# Altium schematic symbol library MCU_Microchip_PIC12.SchLib: 114 symbols
Pins are listed as number, name and electrical type; pins without a type are passive.

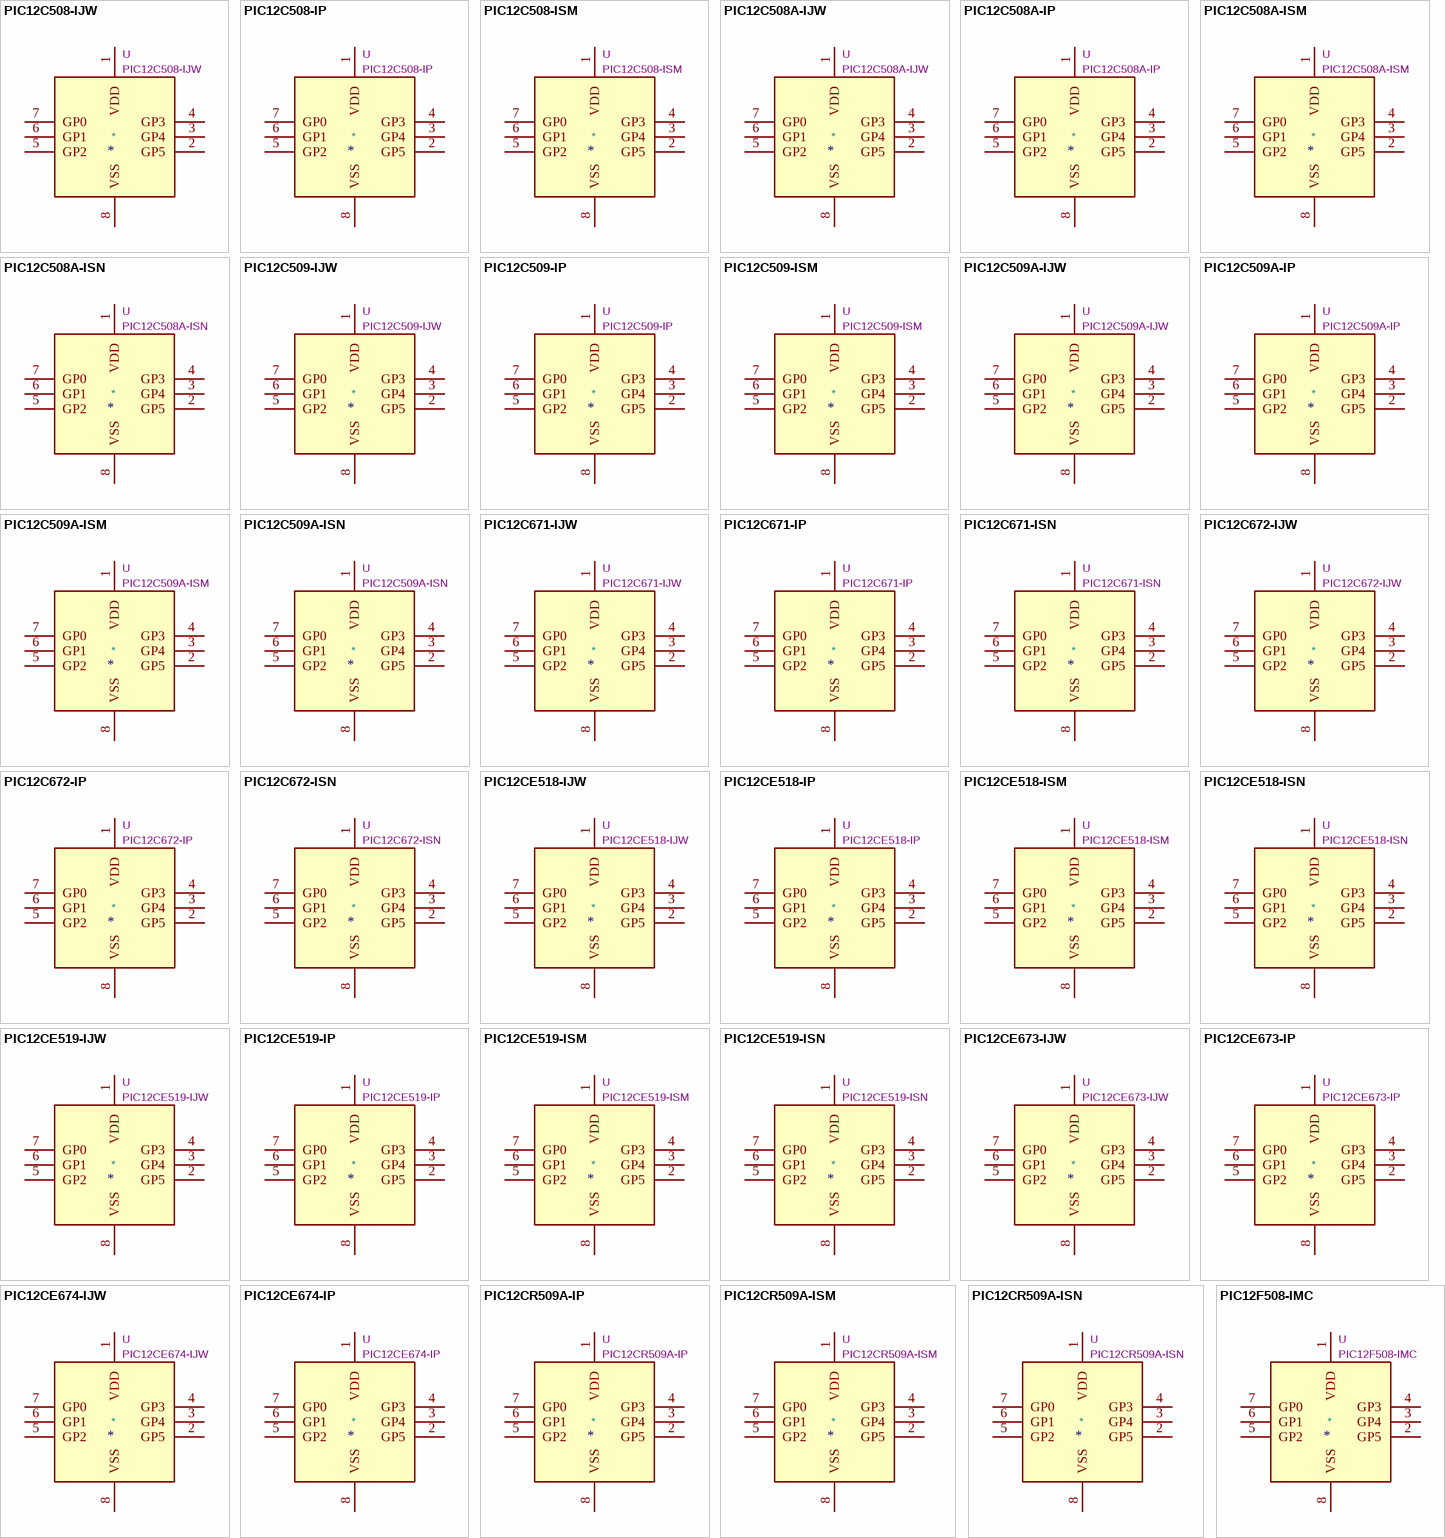
[diagram p0: symbols PIC12C508-IJW to PIC12F508-IMC]

## PIC12C508-IJW
designator *  value PIC12C508-IJW  Reference: U
ki_keywords: 8-Bit CMOS Microcontroller; ki_description: PIC12C508, 512W EPROM, 25B SRAM, CERDIP8 Windowed; ki_fp_filters: DIP*W7.62mm*; Footprint: Package_DIP:DIP-8_W7.62mm; Datasheet: http://ww1.microchip.com/downloads/en/devicedoc/40139e.pdf
pins: 1 VDD, 2 GP5, 3 GP4, 4 GP3, 5 GP2, 6 GP1, 7 GP0, 8 VSS

## PIC12C508-IP
designator *  value PIC12C508-IP  Reference: U
ki_keywords: 8-Bit CMOS Microcontroller; ki_description: 512W EPROM, 25B SRAM, PDIP8; ki_fp_filters: DIP*W7.62mm*; Footprint: Package_DIP:DIP-8_W7.62mm; Datasheet: http://ww1.microchip.com/downloads/en/devicedoc/40139e.pdf
pins: 1 VDD, 2 GP5, 3 GP4, 4 GP3, 5 GP2, 6 GP1, 7 GP0, 8 VSS

## PIC12C508-ISM
designator *  value PIC12C508-ISM  Reference: U
ki_keywords: 8-Bit CMOS Microcontroller; ki_description: PIC12C508, 512W EPROM, 25B SRAM, SO8 Wide; ki_fp_filters: DIP*W7.62mm*; Footprint: Package_DIP:DIP-8_W7.62mm; Datasheet: http://ww1.microchip.com/downloads/en/devicedoc/40139e.pdf
pins: 1 VDD, 2 GP5, 3 GP4, 4 GP3, 5 GP2, 6 GP1, 7 GP0, 8 VSS

## PIC12C508A-IJW
designator *  value PIC12C508A-IJW  Reference: U
ki_keywords: 8-Bit CMOS Microcontroller; ki_description: PIC12C508A, 512W EPROM, 25B SRAM, CERDIP8 Windowed; ki_fp_filters: DIP*W7.62mm*; Footprint: Package_DIP:DIP-8_W7.62mm; Datasheet: http://ww1.microchip.com/downloads/en/devicedoc/40139e.pdf
pins: 1 VDD, 2 GP5, 3 GP4, 4 GP3, 5 GP2, 6 GP1, 7 GP0, 8 VSS

## PIC12C508A-IP
designator *  value PIC12C508A-IP  Reference: U
ki_keywords: 8-Bit CMOS Microcontroller; ki_description: 512W EPROM, 25B SRAM, PDIP8; ki_fp_filters: DIP*W7.62mm*; Footprint: Package_DIP:DIP-8_W7.62mm; Datasheet: http://ww1.microchip.com/downloads/en/devicedoc/40139e.pdf
pins: 1 VDD, 2 GP5, 3 GP4, 4 GP3, 5 GP2, 6 GP1, 7 GP0, 8 VSS

## PIC12C508A-ISM
designator *  value PIC12C508A-ISM  Reference: U
ki_keywords: 8-Bit CMOS Microcontroller; ki_description: PIC12C508A, 512W EPROM, 25B SRAM, SO8 Wide; ki_fp_filters: DIP*W7.62mm*; Footprint: Package_DIP:DIP-8_W7.62mm; Datasheet: http://ww1.microchip.com/downloads/en/devicedoc/40139e.pdf
pins: 1 VDD, 2 GP5, 3 GP4, 4 GP3, 5 GP2, 6 GP1, 7 GP0, 8 VSS

## PIC12C508A-ISN
designator *  value PIC12C508A-ISN  Reference: U
ki_keywords: 8-Bit CMOS Microcontroller; ki_description: PIC12C508A, 512W EPROM, 25B SRAM, SO8; ki_fp_filters: DIP*W7.62mm*; Footprint: Package_DIP:DIP-8_W7.62mm; Datasheet: http://ww1.microchip.com/downloads/en/devicedoc/40139e.pdf
pins: 1 VDD, 2 GP5, 3 GP4, 4 GP3, 5 GP2, 6 GP1, 7 GP0, 8 VSS

## PIC12C509-IJW
designator *  value PIC12C509-IJW  Reference: U
ki_keywords: 8-Bit CMOS Microcontroller; ki_description: PIC12C509, 1024W EPROM, 41B SRAM, CERDIP8 Windowed; ki_fp_filters: DIP*W7.62mm*; Footprint: Package_DIP:DIP-8_W7.62mm; Datasheet: http://ww1.microchip.com/downloads/en/devicedoc/40139e.pdf
pins: 1 VDD, 2 GP5, 3 GP4, 4 GP3, 5 GP2, 6 GP1, 7 GP0, 8 VSS

## PIC12C509-IP
designator *  value PIC12C509-IP  Reference: U
ki_keywords: 8-Bit CMOS Microcontroller; ki_description: 1024W EPROM, 41B SRAM, PDIP8; ki_fp_filters: DIP*W7.62mm*; Footprint: Package_DIP:DIP-8_W7.62mm; Datasheet: http://ww1.microchip.com/downloads/en/devicedoc/40139e.pdf
pins: 1 VDD, 2 GP5, 3 GP4, 4 GP3, 5 GP2, 6 GP1, 7 GP0, 8 VSS

## PIC12C509-ISM
designator *  value PIC12C509-ISM  Reference: U
ki_keywords: 8-Bit CMOS Microcontroller; ki_description: PIC12C509, 1024W EPROM, 41B SRAM, SO8 Wide; ki_fp_filters: DIP*W7.62mm*; Footprint: Package_DIP:DIP-8_W7.62mm; Datasheet: http://ww1.microchip.com/downloads/en/devicedoc/40139e.pdf
pins: 1 VDD, 2 GP5, 3 GP4, 4 GP3, 5 GP2, 6 GP1, 7 GP0, 8 VSS

## PIC12C509A-IJW
designator *  value PIC12C509A-IJW  Reference: U
ki_keywords: 8-Bit CMOS Microcontroller; ki_description: PIC12C509A, 1024W EPROM, 41B SRAM, CERDIP8 Windowed; ki_fp_filters: DIP*W7.62mm*; Footprint: Package_DIP:DIP-8_W7.62mm; Datasheet: http://ww1.microchip.com/downloads/en/devicedoc/40139e.pdf
pins: 1 VDD, 2 GP5, 3 GP4, 4 GP3, 5 GP2, 6 GP1, 7 GP0, 8 VSS

## PIC12C509A-IP
designator *  value PIC12C509A-IP  Reference: U
ki_keywords: 8-Bit CMOS Microcontroller; ki_description: PIC12C509, 1024W EPROM, 41B SRAM, PDIP8; ki_fp_filters: DIP*W7.62mm*; Footprint: Package_DIP:DIP-8_W7.62mm; Datasheet: http://ww1.microchip.com/downloads/en/devicedoc/40139e.pdf
pins: 1 VDD, 2 GP5, 3 GP4, 4 GP3, 5 GP2, 6 GP1, 7 GP0, 8 VSS

## PIC12C509A-ISM
designator *  value PIC12C509A-ISM  Reference: U
ki_keywords: 8-Bit CMOS Microcontroller; ki_description: PIC12C509A, 1024W EPROM, 41B SRAM, SO8 Wide; ki_fp_filters: DIP*W7.62mm*; Footprint: Package_DIP:DIP-8_W7.62mm; Datasheet: http://ww1.microchip.com/downloads/en/devicedoc/40139e.pdf
pins: 1 VDD, 2 GP5, 3 GP4, 4 GP3, 5 GP2, 6 GP1, 7 GP0, 8 VSS

## PIC12C509A-ISN
designator *  value PIC12C509A-ISN  Reference: U
ki_keywords: 8-Bit CMOS Microcontroller; ki_description: PIC12C509A, 1024W EPROM, 41B SRAM, SO8; ki_fp_filters: DIP*W7.62mm*; Footprint: Package_DIP:DIP-8_W7.62mm; Datasheet: http://ww1.microchip.com/downloads/en/devicedoc/40139e.pdf
pins: 1 VDD, 2 GP5, 3 GP4, 4 GP3, 5 GP2, 6 GP1, 7 GP0, 8 VSS

## PIC12C671-IJW
designator *  value PIC12C671-IJW  Reference: U
ki_keywords: 8-Bit CMOS Microcontroller; ki_description: PIC12C671, 1024W EPROM, 128B SRAM, CERDIP8 Windowed; ki_fp_filters: DIP*W7.62mm*; Footprint: Package_DIP:DIP-8_W7.62mm; Datasheet: http://ww1.microchip.com/downloads/en/DeviceDoc/30561b.pdf
pins: 1 VDD, 2 GP5, 3 GP4, 4 GP3, 5 GP2, 6 GP1, 7 GP0, 8 VSS

## PIC12C671-IP
designator *  value PIC12C671-IP  Reference: U
ki_keywords: 8-Bit CMOS Microcontroller; ki_description: 1024W EPROM, 128B SRAM, PDIP8; ki_fp_filters: DIP*W7.62mm*; Footprint: Package_DIP:DIP-8_W7.62mm; Datasheet: http://ww1.microchip.com/downloads/en/DeviceDoc/30561b.pdf
pins: 1 VDD, 2 GP5, 3 GP4, 4 GP3, 5 GP2, 6 GP1, 7 GP0, 8 VSS

## PIC12C671-ISN
designator *  value PIC12C671-ISN  Reference: U
ki_keywords: 8-Bit CMOS Microcontroller; ki_description: PIC12C671, 1024W EPROM, 128B SRAM, SO8; ki_fp_filters: DIP*W7.62mm*; Footprint: Package_DIP:DIP-8_W7.62mm; Datasheet: http://ww1.microchip.com/downloads/en/DeviceDoc/30561b.pdf
pins: 1 VDD, 2 GP5, 3 GP4, 4 GP3, 5 GP2, 6 GP1, 7 GP0, 8 VSS

## PIC12C672-IJW
designator *  value PIC12C672-IJW  Reference: U
ki_keywords: 8-Bit CMOS Microcontroller; ki_description: PIC12C672, 2048W EPROM, 128B SRAM, CERDIP8 Windowed; ki_fp_filters: DIP*W7.62mm*; Footprint: Package_DIP:DIP-8_W7.62mm; Datasheet: http://ww1.microchip.com/downloads/en/DeviceDoc/30561b.pdf
pins: 1 VDD, 2 GP5, 3 GP4, 4 GP3, 5 GP2, 6 GP1, 7 GP0, 8 VSS

## PIC12C672-IP
designator *  value PIC12C672-IP  Reference: U
ki_keywords: 8-Bit CMOS Microcontroller; ki_description: 2048W EPROM, 128B SRAM, PDIP8; ki_fp_filters: DIP*W7.62mm*; Footprint: Package_DIP:DIP-8_W7.62mm; Datasheet: http://ww1.microchip.com/downloads/en/DeviceDoc/30561b.pdf
pins: 1 VDD, 2 GP5, 3 GP4, 4 GP3, 5 GP2, 6 GP1, 7 GP0, 8 VSS

## PIC12C672-ISN
designator *  value PIC12C672-ISN  Reference: U
ki_keywords: 8-Bit CMOS Microcontroller; ki_description: PIC12C672, 2048W EPROM, 128B SRAM, SO8; ki_fp_filters: DIP*W7.62mm*; Footprint: Package_DIP:DIP-8_W7.62mm; Datasheet: http://ww1.microchip.com/downloads/en/DeviceDoc/30561b.pdf
pins: 1 VDD, 2 GP5, 3 GP4, 4 GP3, 5 GP2, 6 GP1, 7 GP0, 8 VSS

## PIC12CE518-IJW
designator *  value PIC12CE518-IJW  Reference: U
ki_keywords: 8-Bit CMOS Microcontroller; ki_description: PIC12CE518, 512W EPROM, 25B SRAM, CERDIP8 Windowed; ki_fp_filters: DIP*W7.62mm*; Footprint: Package_DIP:DIP-8_W7.62mm; Datasheet: http://ww1.microchip.com/downloads/en/devicedoc/40139e.pdf
pins: 1 VDD, 2 GP5, 3 GP4, 4 GP3, 5 GP2, 6 GP1, 7 GP0, 8 VSS

## PIC12CE518-IP
designator *  value PIC12CE518-IP  Reference: U
ki_keywords: 8-Bit CMOS Microcontroller; ki_description: 512W EPROM, 25B SRAM, PDIP8; ki_fp_filters: DIP*W7.62mm*; Footprint: Package_DIP:DIP-8_W7.62mm; Datasheet: http://ww1.microchip.com/downloads/en/devicedoc/40139e.pdf
pins: 1 VDD, 2 GP5, 3 GP4, 4 GP3, 5 GP2, 6 GP1, 7 GP0, 8 VSS

## PIC12CE518-ISM
designator *  value PIC12CE518-ISM  Reference: U
ki_keywords: 8-Bit CMOS Microcontroller; ki_description: PIC12CE518, 512W EPROM, 25B SRAM, SO8 Wide; ki_fp_filters: DIP*W7.62mm*; Footprint: Package_DIP:DIP-8_W7.62mm; Datasheet: http://ww1.microchip.com/downloads/en/devicedoc/40139e.pdf
pins: 1 VDD, 2 GP5, 3 GP4, 4 GP3, 5 GP2, 6 GP1, 7 GP0, 8 VSS

## PIC12CE518-ISN
designator *  value PIC12CE518-ISN  Reference: U
ki_keywords: 8-Bit CMOS Microcontroller; ki_description: PIC12CE518, 512W EPROM, 25B SRAM, SO8; ki_fp_filters: DIP*W7.62mm*; Footprint: Package_DIP:DIP-8_W7.62mm; Datasheet: http://ww1.microchip.com/downloads/en/devicedoc/40139e.pdf
pins: 1 VDD, 2 GP5, 3 GP4, 4 GP3, 5 GP2, 6 GP1, 7 GP0, 8 VSS

## PIC12CE519-IJW
designator *  value PIC12CE519-IJW  Reference: U
ki_keywords: 8-Bit CMOS Microcontroller; ki_description: PIC12CE519, 1024W EPROM, 41B SRAM, CERDIP8 Windowed; ki_fp_filters: DIP*W7.62mm*; Footprint: Package_DIP:DIP-8_W7.62mm; Datasheet: http://ww1.microchip.com/downloads/en/devicedoc/40139e.pdf
pins: 1 VDD, 2 GP5, 3 GP4, 4 GP3, 5 GP2, 6 GP1, 7 GP0, 8 VSS

## PIC12CE519-IP
designator *  value PIC12CE519-IP  Reference: U
ki_keywords: 8-Bit CMOS Microcontroller; ki_description: 1024W EPROM, 41B SRAM, PDIP8; ki_fp_filters: DIP*W7.62mm*; Footprint: Package_DIP:DIP-8_W7.62mm; Datasheet: http://ww1.microchip.com/downloads/en/devicedoc/40139e.pdf
pins: 1 VDD, 2 GP5, 3 GP4, 4 GP3, 5 GP2, 6 GP1, 7 GP0, 8 VSS

## PIC12CE519-ISM
designator *  value PIC12CE519-ISM  Reference: U
ki_keywords: 8-Bit CMOS Microcontroller; ki_description: 1024W EPROM, 41B SRAM, SO8 Wide; ki_fp_filters: DIP*W7.62mm*; Footprint: Package_DIP:DIP-8_W7.62mm; Datasheet: http://ww1.microchip.com/downloads/en/devicedoc/40139e.pdf
pins: 1 VDD, 2 GP5, 3 GP4, 4 GP3, 5 GP2, 6 GP1, 7 GP0, 8 VSS

## PIC12CE519-ISN
designator *  value PIC12CE519-ISN  Reference: U
ki_keywords: 8-Bit CMOS Microcontroller; ki_description: PIC12CE519, 1024W EPROM, 41B SRAM, SO8; ki_fp_filters: DIP*W7.62mm*; Footprint: Package_DIP:DIP-8_W7.62mm; Datasheet: http://ww1.microchip.com/downloads/en/devicedoc/40139e.pdf
pins: 1 VDD, 2 GP5, 3 GP4, 4 GP3, 5 GP2, 6 GP1, 7 GP0, 8 VSS

## PIC12CE673-IJW
designator *  value PIC12CE673-IJW  Reference: U
ki_keywords: 8-Bit CMOS Microcontroller; ki_description: PIC12CE673, 1024W EPROM, 128B SRAM, 128B EEPROM, CERDIP8 Windowed; ki_fp_filters: DIP*W7.62mm*; Footprint: Package_DIP:DIP-8_W7.62mm; Datasheet: http://ww1.microchip.com/downloads/en/DeviceDoc/30561b.pdf
pins: 1 VDD, 2 GP5, 3 GP4, 4 GP3, 5 GP2, 6 GP1, 7 GP0, 8 VSS

## PIC12CE673-IP
designator *  value PIC12CE673-IP  Reference: U
ki_keywords: 8-Bit CMOS Microcontroller; ki_description: 1024W EPROM, 128B SRAM, 128B EPROM, PDIP8; ki_fp_filters: DIP*W7.62mm*; Footprint: Package_DIP:DIP-8_W7.62mm; Datasheet: http://ww1.microchip.com/downloads/en/DeviceDoc/30561b.pdf
pins: 1 VDD, 2 GP5, 3 GP4, 4 GP3, 5 GP2, 6 GP1, 7 GP0, 8 VSS

## PIC12CE674-IJW
designator *  value PIC12CE674-IJW  Reference: U
ki_keywords: 8-Bit CMOS Microcontroller; ki_description: PIC12CE674, 2048W EPROM, 128B SRAM, 128B EEPROM, CERDIP8 Windowed; ki_fp_filters: DIP*W7.62mm*; Footprint: Package_DIP:DIP-8_W7.62mm; Datasheet: http://ww1.microchip.com/downloads/en/DeviceDoc/30561b.pdf
pins: 1 VDD, 2 GP5, 3 GP4, 4 GP3, 5 GP2, 6 GP1, 7 GP0, 8 VSS

## PIC12CE674-IP
designator *  value PIC12CE674-IP  Reference: U
ki_keywords: 8-Bit CMOS Microcontroller; ki_description: 2048W EPROM, 128B SRAM, 128B EPROM, PDIP8; ki_fp_filters: DIP*W7.62mm*; Footprint: Package_DIP:DIP-8_W7.62mm; Datasheet: http://ww1.microchip.com/downloads/en/DeviceDoc/30561b.pdf
pins: 1 VDD, 2 GP5, 3 GP4, 4 GP3, 5 GP2, 6 GP1, 7 GP0, 8 VSS

## PIC12CR509A-IP
designator *  value PIC12CR509A-IP  Reference: U
ki_keywords: 8-Bit CMOS Microcontroller; ki_description: 1024W ROM, 41B SRAM, PDIP8; ki_fp_filters: DIP*W7.62mm*; Footprint: Package_DIP:DIP-8_W7.62mm; Datasheet: http://ww1.microchip.com/downloads/en/devicedoc/40139e.pdf
pins: 1 VDD, 2 GP5, 3 GP4, 4 GP3, 5 GP2, 6 GP1, 7 GP0, 8 VSS

## PIC12CR509A-ISM
designator *  value PIC12CR509A-ISM  Reference: U
ki_keywords: 8-Bit CMOS Microcontroller; ki_description: PIC12CR509A, 1024W ROM, 41B SRAM, SO8 Wide; ki_fp_filters: DIP*W7.62mm*; Footprint: Package_DIP:DIP-8_W7.62mm; Datasheet: http://ww1.microchip.com/downloads/en/devicedoc/40139e.pdf
pins: 1 VDD, 2 GP5, 3 GP4, 4 GP3, 5 GP2, 6 GP1, 7 GP0, 8 VSS

## PIC12CR509A-ISN
designator *  value PIC12CR509A-ISN  Reference: U
ki_keywords: 8-Bit CMOS Microcontroller; ki_description: PIC12CR509A, 1024W ROM, 41B SRAM, SO8; ki_fp_filters: DIP*W7.62mm*; Footprint: Package_DIP:DIP-8_W7.62mm; Datasheet: http://ww1.microchip.com/downloads/en/devicedoc/40139e.pdf
pins: 1 VDD, 2 GP5, 3 GP4, 4 GP3, 5 GP2, 6 GP1, 7 GP0, 8 VSS

## PIC12F508-IMC
designator *  value PIC12F508-IMC  Reference: U
ki_keywords: FLASH-Based 8-Bit CMOS Microcontroller; ki_description: PIC12F508, 512W Flash, 25B SRAM, DFN8; ki_fp_filters: DIP*W7.62mm*; Footprint: Package_DIP:DIP-8_W7.62mm; Datasheet: http://ww1.microchip.com/downloads/en/DeviceDoc/41236E.pdf
pins: 1 VDD, 2 GP5, 3 GP4, 4 GP3, 5 GP2, 6 GP1, 7 GP0, 8 VSS

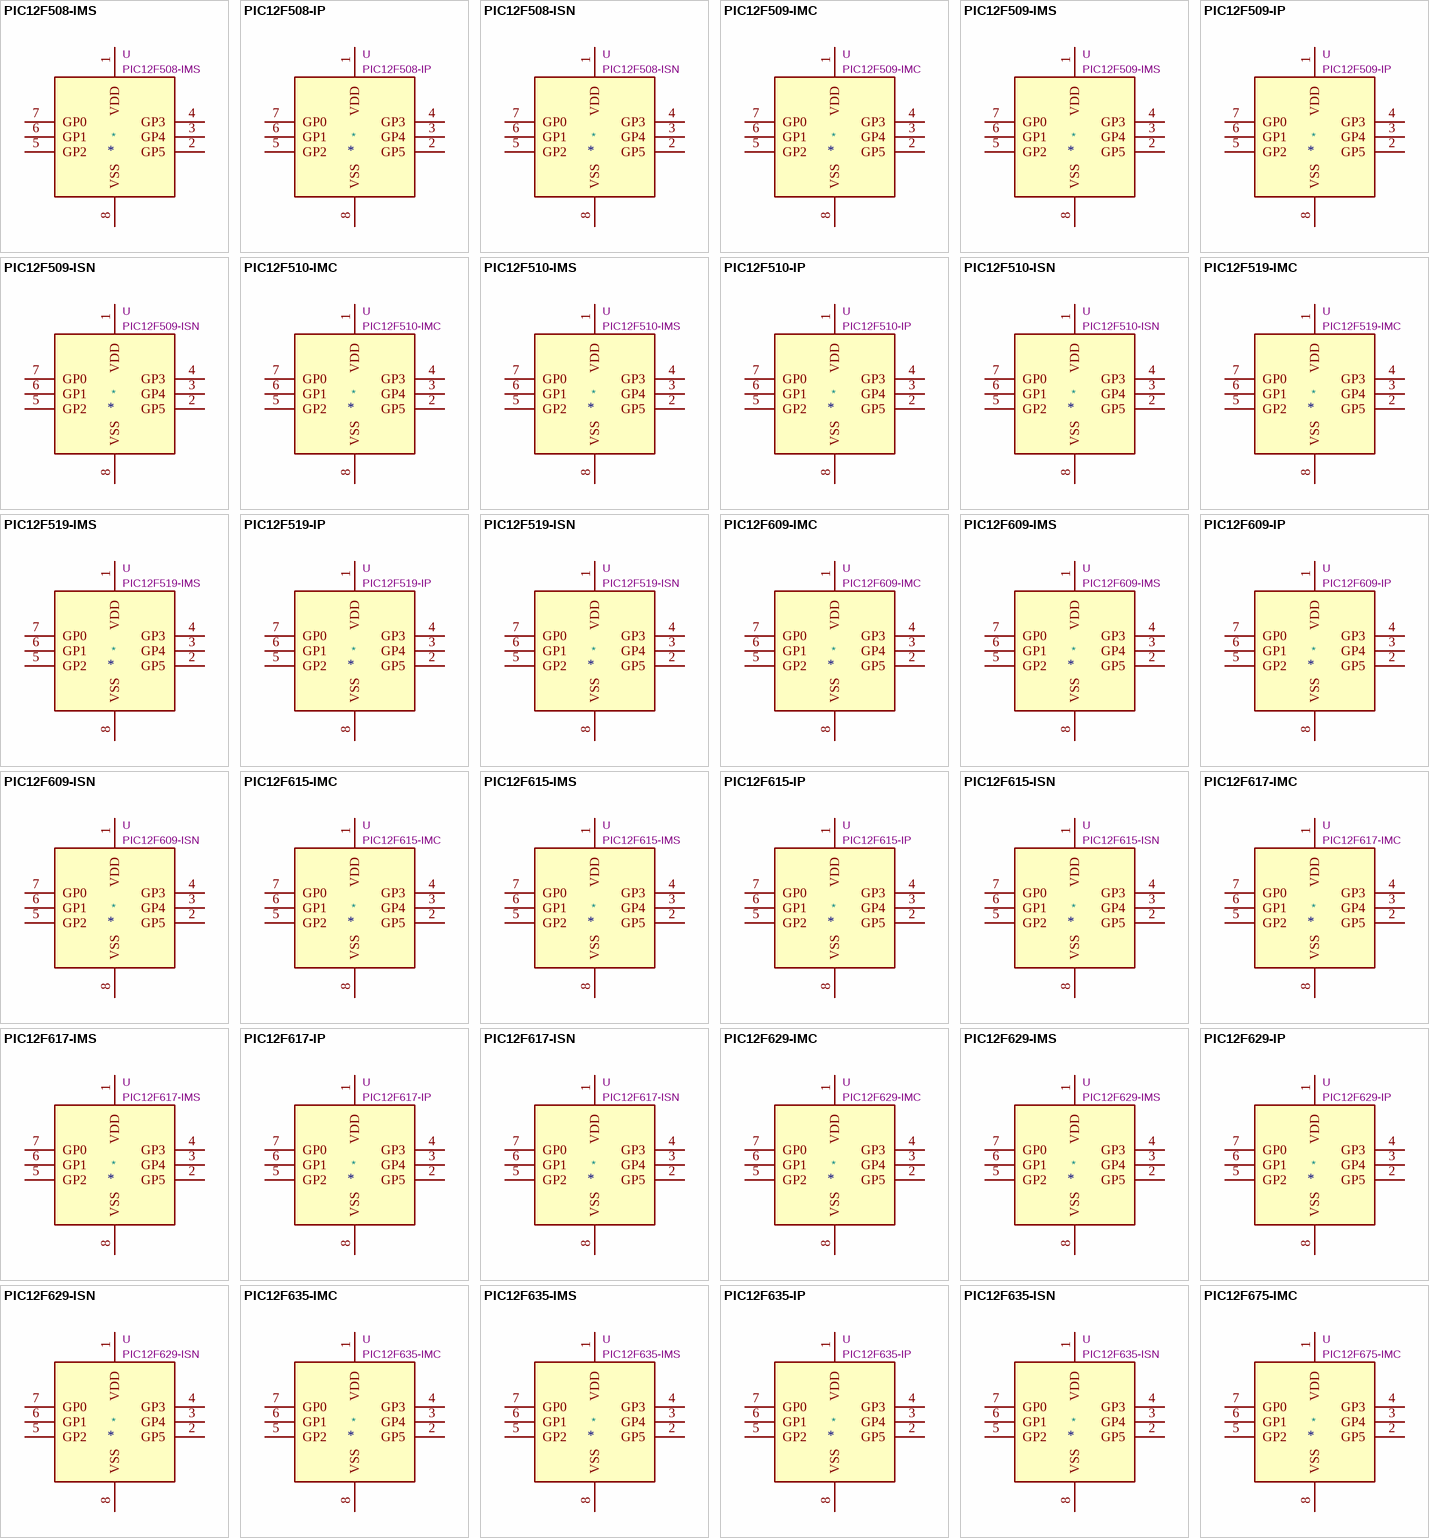
[diagram p1: symbols PIC12F508-IMS to PIC12F675-IMC]

## PIC12F508-IMS
designator *  value PIC12F508-IMS  Reference: U
ki_keywords: FLASH-Based 8-Bit CMOS Microcontroller; ki_description: PIC12F508, 512W Flash, 25B SRAM, MSOP8; ki_fp_filters: DIP*W7.62mm*; Footprint: Package_DIP:DIP-8_W7.62mm; Datasheet: http://ww1.microchip.com/downloads/en/DeviceDoc/41236E.pdf
pins: 1 VDD, 2 GP5, 3 GP4, 4 GP3, 5 GP2, 6 GP1, 7 GP0, 8 VSS

## PIC12F508-IP
designator *  value PIC12F508-IP  Reference: U
ki_keywords: FLASH-Based 8-Bit CMOS Microcontroller; ki_description: 512W Flash, 25B SRAM, PDIP8; ki_fp_filters: DIP*W7.62mm*; Footprint: Package_DIP:DIP-8_W7.62mm; Datasheet: http://ww1.microchip.com/downloads/en/DeviceDoc/41236E.pdf
pins: 1 VDD, 2 GP5, 3 GP4, 4 GP3, 5 GP2, 6 GP1, 7 GP0, 8 VSS

## PIC12F508-ISN
designator *  value PIC12F508-ISN  Reference: U
ki_keywords: FLASH-Based 8-Bit CMOS Microcontroller; ki_description: PIC12F508, 512W Flash, 25B SRAM, SO8; ki_fp_filters: DIP*W7.62mm*; Footprint: Package_DIP:DIP-8_W7.62mm; Datasheet: http://ww1.microchip.com/downloads/en/DeviceDoc/41236E.pdf
pins: 1 VDD, 2 GP5, 3 GP4, 4 GP3, 5 GP2, 6 GP1, 7 GP0, 8 VSS

## PIC12F509-IMC
designator *  value PIC12F509-IMC  Reference: U
ki_keywords: FLASH-Based 8-Bit CMOS Microcontroller; ki_description: PIC12F509, 1024W Flash, 41B SRAM, DFN8; ki_fp_filters: DIP*W7.62mm*; Footprint: Package_DIP:DIP-8_W7.62mm; Datasheet: http://ww1.microchip.com/downloads/en/DeviceDoc/41236E.pdf
pins: 1 VDD, 2 GP5, 3 GP4, 4 GP3, 5 GP2, 6 GP1, 7 GP0, 8 VSS

## PIC12F509-IMS
designator *  value PIC12F509-IMS  Reference: U
ki_keywords: FLASH-Based 8-Bit CMOS Microcontroller; ki_description: PIC12F509, 1024W Flash, 41B SRAM, MSOP8; ki_fp_filters: DIP*W7.62mm*; Footprint: Package_DIP:DIP-8_W7.62mm; Datasheet: http://ww1.microchip.com/downloads/en/DeviceDoc/41236E.pdf
pins: 1 VDD, 2 GP5, 3 GP4, 4 GP3, 5 GP2, 6 GP1, 7 GP0, 8 VSS

## PIC12F509-IP
designator *  value PIC12F509-IP  Reference: U
ki_keywords: FLASH-Based 8-Bit CMOS Microcontroller; ki_description: 1024W Flash, 41B SRAM, PDIP8; ki_fp_filters: DIP*W7.62mm*; Footprint: Package_DIP:DIP-8_W7.62mm; Datasheet: http://ww1.microchip.com/downloads/en/DeviceDoc/41236E.pdf
pins: 1 VDD, 2 GP5, 3 GP4, 4 GP3, 5 GP2, 6 GP1, 7 GP0, 8 VSS

## PIC12F509-ISN
designator *  value PIC12F509-ISN  Reference: U
ki_keywords: FLASH-Based 8-Bit CMOS Microcontroller; ki_description: PIC12F509, 1024W Flash, 41B SRAM, SO8; ki_fp_filters: DIP*W7.62mm*; Footprint: Package_DIP:DIP-8_W7.62mm; Datasheet: http://ww1.microchip.com/downloads/en/DeviceDoc/41236E.pdf
pins: 1 VDD, 2 GP5, 3 GP4, 4 GP3, 5 GP2, 6 GP1, 7 GP0, 8 VSS

## PIC12F510-IMC
designator *  value PIC12F510-IMC  Reference: U
ki_keywords: FLASH-Based 8-Bit CMOS Microcontroller; ki_description: PIC12F510, 1024W FLASH, 38B SRAM, DFN8; ki_fp_filters: DIP*W7.62mm*; Footprint: Package_DIP:DIP-8_W7.62mm; Datasheet: http://ww1.microchip.com/downloads/en/DeviceDoc/41268D.pdf
pins: 1 VDD, 2 GP5, 3 GP4, 4 GP3, 5 GP2, 6 GP1, 7 GP0, 8 VSS

## PIC12F510-IMS
designator *  value PIC12F510-IMS  Reference: U
ki_keywords: FLASH-Based 8-Bit CMOS Microcontroller; ki_description: PIC12F510, 1024W FLASH, 38B SRAM, MSOP8; ki_fp_filters: DIP*W7.62mm*; Footprint: Package_DIP:DIP-8_W7.62mm; Datasheet: http://ww1.microchip.com/downloads/en/DeviceDoc/41268D.pdf
pins: 1 VDD, 2 GP5, 3 GP4, 4 GP3, 5 GP2, 6 GP1, 7 GP0, 8 VSS

## PIC12F510-IP
designator *  value PIC12F510-IP  Reference: U
ki_keywords: FLASH-Based 8-Bit CMOS Microcontroller; ki_description: 1024W FLASH, 38B SRAM, PDIP8; ki_fp_filters: DIP*W7.62mm*; Footprint: Package_DIP:DIP-8_W7.62mm; Datasheet: http://ww1.microchip.com/downloads/en/DeviceDoc/41268D.pdf
pins: 1 VDD, 2 GP5, 3 GP4, 4 GP3, 5 GP2, 6 GP1, 7 GP0, 8 VSS

## PIC12F510-ISN
designator *  value PIC12F510-ISN  Reference: U
ki_keywords: FLASH-Based 8-Bit CMOS Microcontroller; ki_description: PIC12F510, 1024W FLASH, 38B SRAM, SO8; ki_fp_filters: DIP*W7.62mm*; Footprint: Package_DIP:DIP-8_W7.62mm; Datasheet: http://ww1.microchip.com/downloads/en/DeviceDoc/41268D.pdf
pins: 1 VDD, 2 GP5, 3 GP4, 4 GP3, 5 GP2, 6 GP1, 7 GP0, 8 VSS

## PIC12F519-IMC
designator *  value PIC12F519-IMC  Reference: U
ki_keywords: FLASH-Based 8-Bit CMOS Microcontroller; ki_description: PIC12F519, 1024W Flash, 41B SRAM, 64B EEPROM, DFN8; ki_fp_filters: DIP*W7.62mm*; Footprint: Package_DIP:DIP-8_W7.62mm; Datasheet: http://ww1.microchip.com/downloads/en/DeviceDoc/41319B.pdf
pins: 1 VDD, 2 GP5, 3 GP4, 4 GP3, 5 GP2, 6 GP1, 7 GP0, 8 VSS

## PIC12F519-IMS
designator *  value PIC12F519-IMS  Reference: U
ki_keywords: FLASH-Based 8-Bit CMOS Microcontroller; ki_description: PIC12F519, 1024W Flash, 41B SRAM, 64B EEPROM, MSOP8; ki_fp_filters: DIP*W7.62mm*; Footprint: Package_DIP:DIP-8_W7.62mm; Datasheet: http://ww1.microchip.com/downloads/en/DeviceDoc/41319B.pdf
pins: 1 VDD, 2 GP5, 3 GP4, 4 GP3, 5 GP2, 6 GP1, 7 GP0, 8 VSS

## PIC12F519-IP
designator *  value PIC12F519-IP  Reference: U
ki_keywords: FLASH-Based 8-Bit CMOS Microcontroller; ki_description: 1024W Flash, 41B SRAM, 64B EEPROM, PDIP8; ki_fp_filters: DIP*W7.62mm*; Footprint: Package_DIP:DIP-8_W7.62mm; Datasheet: http://ww1.microchip.com/downloads/en/DeviceDoc/41319B.pdf
pins: 1 VDD, 2 GP5, 3 GP4, 4 GP3, 5 GP2, 6 GP1, 7 GP0, 8 VSS

## PIC12F519-ISN
designator *  value PIC12F519-ISN  Reference: U
ki_keywords: FLASH-Based 8-Bit CMOS Microcontroller; ki_description: PIC12F519, 1024W Flash, 41B SRAM, 64B EEPROM, SO8; ki_fp_filters: DIP*W7.62mm*; Footprint: Package_DIP:DIP-8_W7.62mm; Datasheet: http://ww1.microchip.com/downloads/en/DeviceDoc/41319B.pdf
pins: 1 VDD, 2 GP5, 3 GP4, 4 GP3, 5 GP2, 6 GP1, 7 GP0, 8 VSS

## PIC12F609-IMC
designator *  value PIC12F609-IMC  Reference: U
ki_keywords: FLASH-Based 8-Bit CMOS Microcontroller; ki_description: PIC12F609, 1024W Flash, 64B SRAM, DFN8; ki_fp_filters: DIP*W7.62mm*; Footprint: Package_DIP:DIP-8_W7.62mm; Datasheet: http://ww1.microchip.com/downloads/en/DeviceDoc/41302D.pdf
pins: 1 VDD, 2 GP5, 3 GP4, 4 GP3, 5 GP2, 6 GP1, 7 GP0, 8 VSS

## PIC12F609-IMS
designator *  value PIC12F609-IMS  Reference: U
ki_keywords: FLASH-Based 8-Bit CMOS Microcontroller; ki_description: PIC12F609, 1024W Flash, 64B SRAM, MSOP8; ki_fp_filters: DIP*W7.62mm*; Footprint: Package_DIP:DIP-8_W7.62mm; Datasheet: http://ww1.microchip.com/downloads/en/DeviceDoc/41302D.pdf
pins: 1 VDD, 2 GP5, 3 GP4, 4 GP3, 5 GP2, 6 GP1, 7 GP0, 8 VSS

## PIC12F609-IP
designator *  value PIC12F609-IP  Reference: U
ki_keywords: FLASH-Based 8-Bit CMOS Microcontroller; ki_description: 1024W Flash, 64B SRAM, PDIP8; ki_fp_filters: DIP*W7.62mm*; Footprint: Package_DIP:DIP-8_W7.62mm; Datasheet: http://ww1.microchip.com/downloads/en/DeviceDoc/41302D.pdf
pins: 1 VDD, 2 GP5, 3 GP4, 4 GP3, 5 GP2, 6 GP1, 7 GP0, 8 VSS

## PIC12F609-ISN
designator *  value PIC12F609-ISN  Reference: U
ki_keywords: FLASH-Based 8-Bit CMOS Microcontroller; ki_description: PIC12F609, 1024W Flash, 64B SRAM, SO8; ki_fp_filters: DIP*W7.62mm*; Footprint: Package_DIP:DIP-8_W7.62mm; Datasheet: http://ww1.microchip.com/downloads/en/DeviceDoc/41302D.pdf
pins: 1 VDD, 2 GP5, 3 GP4, 4 GP3, 5 GP2, 6 GP1, 7 GP0, 8 VSS

## PIC12F615-IMC
designator *  value PIC12F615-IMC  Reference: U
ki_keywords: FLASH-Based 8-Bit CMOS Microcontroller; ki_description: PIC12F615, 1024W Flash, 64B SRAM, DFN8; ki_fp_filters: DIP*W7.62mm*; Footprint: Package_DIP:DIP-8_W7.62mm; Datasheet: http://ww1.microchip.com/downloads/en/DeviceDoc/41302D.pdf
pins: 1 VDD, 2 GP5, 3 GP4, 4 GP3, 5 GP2, 6 GP1, 7 GP0, 8 VSS

## PIC12F615-IMS
designator *  value PIC12F615-IMS  Reference: U
ki_keywords: FLASH-Based 8-Bit CMOS Microcontroller; ki_description: PIC12F615, 1024W Flash, 64B SRAM, MSOP8; ki_fp_filters: DIP*W7.62mm*; Footprint: Package_DIP:DIP-8_W7.62mm; Datasheet: http://ww1.microchip.com/downloads/en/DeviceDoc/41302D.pdf
pins: 1 VDD, 2 GP5, 3 GP4, 4 GP3, 5 GP2, 6 GP1, 7 GP0, 8 VSS

## PIC12F615-IP
designator *  value PIC12F615-IP  Reference: U
ki_keywords: FLASH-Based 8-Bit CMOS Microcontroller; ki_description: 1024W Flash, 64B SRAM, PDIP8; ki_fp_filters: DIP*W7.62mm*; Footprint: Package_DIP:DIP-8_W7.62mm; Datasheet: http://ww1.microchip.com/downloads/en/DeviceDoc/41302D.pdf
pins: 1 VDD, 2 GP5, 3 GP4, 4 GP3, 5 GP2, 6 GP1, 7 GP0, 8 VSS

## PIC12F615-ISN
designator *  value PIC12F615-ISN  Reference: U
ki_keywords: FLASH-Based 8-Bit CMOS Microcontroller; ki_description: PIC12F615, 1024W Flash, 64B SRAM, SO8; ki_fp_filters: DIP*W7.62mm*; Footprint: Package_DIP:DIP-8_W7.62mm; Datasheet: http://ww1.microchip.com/downloads/en/DeviceDoc/41302D.pdf
pins: 1 VDD, 2 GP5, 3 GP4, 4 GP3, 5 GP2, 6 GP1, 7 GP0, 8 VSS

## PIC12F617-IMC
designator *  value PIC12F617-IMC  Reference: U
ki_keywords: FLASH-Based 8-Bit CMOS Microcontroller; ki_description: PIC12F617, 2048W Flash, 128B SRAM, DFN8; ki_fp_filters: DIP*W7.62mm*; Footprint: Package_DIP:DIP-8_W7.62mm; Datasheet: http://ww1.microchip.com/downloads/en/DeviceDoc/41302D.pdf
pins: 1 VDD, 2 GP5, 3 GP4, 4 GP3, 5 GP2, 6 GP1, 7 GP0, 8 VSS

## PIC12F617-IMS
designator *  value PIC12F617-IMS  Reference: U
ki_keywords: FLASH-Based 8-Bit CMOS Microcontroller; ki_description: PIC12F617, 2048W Flash, 128B SRAM, MSOP8; ki_fp_filters: DIP*W7.62mm*; Footprint: Package_DIP:DIP-8_W7.62mm; Datasheet: http://ww1.microchip.com/downloads/en/DeviceDoc/41302D.pdf
pins: 1 VDD, 2 GP5, 3 GP4, 4 GP3, 5 GP2, 6 GP1, 7 GP0, 8 VSS

## PIC12F617-IP
designator *  value PIC12F617-IP  Reference: U
ki_keywords: FLASH-Based 8-Bit CMOS Microcontroller; ki_description: 2048W Flash, 128B SRAM, PDIP8; ki_fp_filters: DIP*W7.62mm*; Footprint: Package_DIP:DIP-8_W7.62mm; Datasheet: http://ww1.microchip.com/downloads/en/DeviceDoc/41302D.pdf
pins: 1 VDD, 2 GP5, 3 GP4, 4 GP3, 5 GP2, 6 GP1, 7 GP0, 8 VSS

## PIC12F617-ISN
designator *  value PIC12F617-ISN  Reference: U
ki_keywords: FLASH-Based 8-Bit CMOS Microcontroller; ki_description: PIC12F617, 2048W Flash, 128B SRAM, SO8; ki_fp_filters: DIP*W7.62mm*; Footprint: Package_DIP:DIP-8_W7.62mm; Datasheet: http://ww1.microchip.com/downloads/en/DeviceDoc/41302D.pdf
pins: 1 VDD, 2 GP5, 3 GP4, 4 GP3, 5 GP2, 6 GP1, 7 GP0, 8 VSS

## PIC12F629-IMC
designator *  value PIC12F629-IMC  Reference: U
ki_keywords: FLASH-Based 8-Bit CMOS Microcontroller; ki_description: PIC12F629, 1024W Flash, 64B SRAM, 128B EEPROM, DFN8; ki_fp_filters: DIP*W7.62mm*; Footprint: Package_DIP:DIP-8_W7.62mm; Datasheet: http://ww1.microchip.com/downloads/en/DeviceDoc/41190G.pdf
pins: 1 VDD, 2 GP5, 3 GP4, 4 GP3, 5 GP2, 6 GP1, 7 GP0, 8 VSS

## PIC12F629-IMS
designator *  value PIC12F629-IMS  Reference: U
ki_keywords: FLASH-Based 8-Bit CMOS Microcontroller; ki_description: 1024W Flash, 64B SRAM, 128B EEPROM, PDIP8; ki_fp_filters: DIP*W7.62mm*; Footprint: Package_DIP:DIP-8_W7.62mm; Datasheet: http://ww1.microchip.com/downloads/en/DeviceDoc/41190G.pdf
pins: 1 VDD, 2 GP5, 3 GP4, 4 GP3, 5 GP2, 6 GP1, 7 GP0, 8 VSS

## PIC12F629-IP
designator *  value PIC12F629-IP  Reference: U
ki_keywords: FLASH-Based 8-Bit CMOS Microcontroller; ki_description: 1024W Flash, 64B SRAM, 128B EEPROM, PDIP8; ki_fp_filters: DIP*W7.62mm*; Footprint: Package_DIP:DIP-8_W7.62mm; Datasheet: http://ww1.microchip.com/downloads/en/DeviceDoc/41190G.pdf
pins: 1 VDD, 2 GP5, 3 GP4, 4 GP3, 5 GP2, 6 GP1, 7 GP0, 8 VSS

## PIC12F629-ISN
designator *  value PIC12F629-ISN  Reference: U
ki_keywords: FLASH-Based 8-Bit CMOS Microcontroller; ki_description: PIC12F629, 1024W Flash, 64B SRAM, 128B EEPROM, SO8; ki_fp_filters: DIP*W7.62mm*; Footprint: Package_DIP:DIP-8_W7.62mm; Datasheet: http://ww1.microchip.com/downloads/en/DeviceDoc/41190G.pdf
pins: 1 VDD, 2 GP5, 3 GP4, 4 GP3, 5 GP2, 6 GP1, 7 GP0, 8 VSS

## PIC12F635-IMC
designator *  value PIC12F635-IMC  Reference: U
ki_keywords: FLASH-Based 8-Bit CMOS Microcontroller; ki_description: PIC12F635, 1024W Flash, 64B SRAM, 128B EEPROM, DFN8; ki_fp_filters: DIP*W7.62mm*; Footprint: Package_DIP:DIP-8_W7.62mm; Datasheet: http://ww1.microchip.com/downloads/en/DeviceDoc/41232D.pdf
pins: 1 VDD, 2 GP5, 3 GP4, 4 GP3, 5 GP2, 6 GP1, 7 GP0, 8 VSS

## PIC12F635-IMS
designator *  value PIC12F635-IMS  Reference: U
ki_keywords: FLASH-Based 8-Bit CMOS Microcontroller; ki_description: 1024W Flash, 64B SRAM, 128B EEPROM, PDIP8; ki_fp_filters: DIP*W7.62mm*; Footprint: Package_DIP:DIP-8_W7.62mm; Datasheet: http://ww1.microchip.com/downloads/en/DeviceDoc/41232D.pdf
pins: 1 VDD, 2 GP5, 3 GP4, 4 GP3, 5 GP2, 6 GP1, 7 GP0, 8 VSS

## PIC12F635-IP
designator *  value PIC12F635-IP  Reference: U
ki_keywords: FLASH-Based 8-Bit CMOS Microcontroller; ki_description: 1024W Flash, 64B SRAM, 128B EEPROM, PDIP8; ki_fp_filters: DIP*W7.62mm*; Footprint: Package_DIP:DIP-8_W7.62mm; Datasheet: http://ww1.microchip.com/downloads/en/DeviceDoc/41232D.pdf
pins: 1 VDD, 2 GP5, 3 GP4, 4 GP3, 5 GP2, 6 GP1, 7 GP0, 8 VSS

## PIC12F635-ISN
designator *  value PIC12F635-ISN  Reference: U
ki_keywords: FLASH-Based 8-Bit CMOS Microcontroller; ki_description: PIC12F635, 1024W Flash, 64B SRAM, 128B EEPROM, SO8; ki_fp_filters: DIP*W7.62mm*; Footprint: Package_DIP:DIP-8_W7.62mm; Datasheet: http://ww1.microchip.com/downloads/en/DeviceDoc/41232D.pdf
pins: 1 VDD, 2 GP5, 3 GP4, 4 GP3, 5 GP2, 6 GP1, 7 GP0, 8 VSS

## PIC12F675-IMC
designator *  value PIC12F675-IMC  Reference: U
ki_keywords: FLASH-Based 8-Bit CMOS Microcontroller; ki_description: PIC12F675, 1024W Flash, 64B SRAM, 128B EEPROM, DFN8; ki_fp_filters: DIP*W7.62mm*; Footprint: Package_DIP:DIP-8_W7.62mm; Datasheet: http://ww1.microchip.com/downloads/en/DeviceDoc/41190G.pdf
pins: 1 VDD, 2 GP5, 3 GP4, 4 GP3, 5 GP2, 6 GP1, 7 GP0, 8 VSS

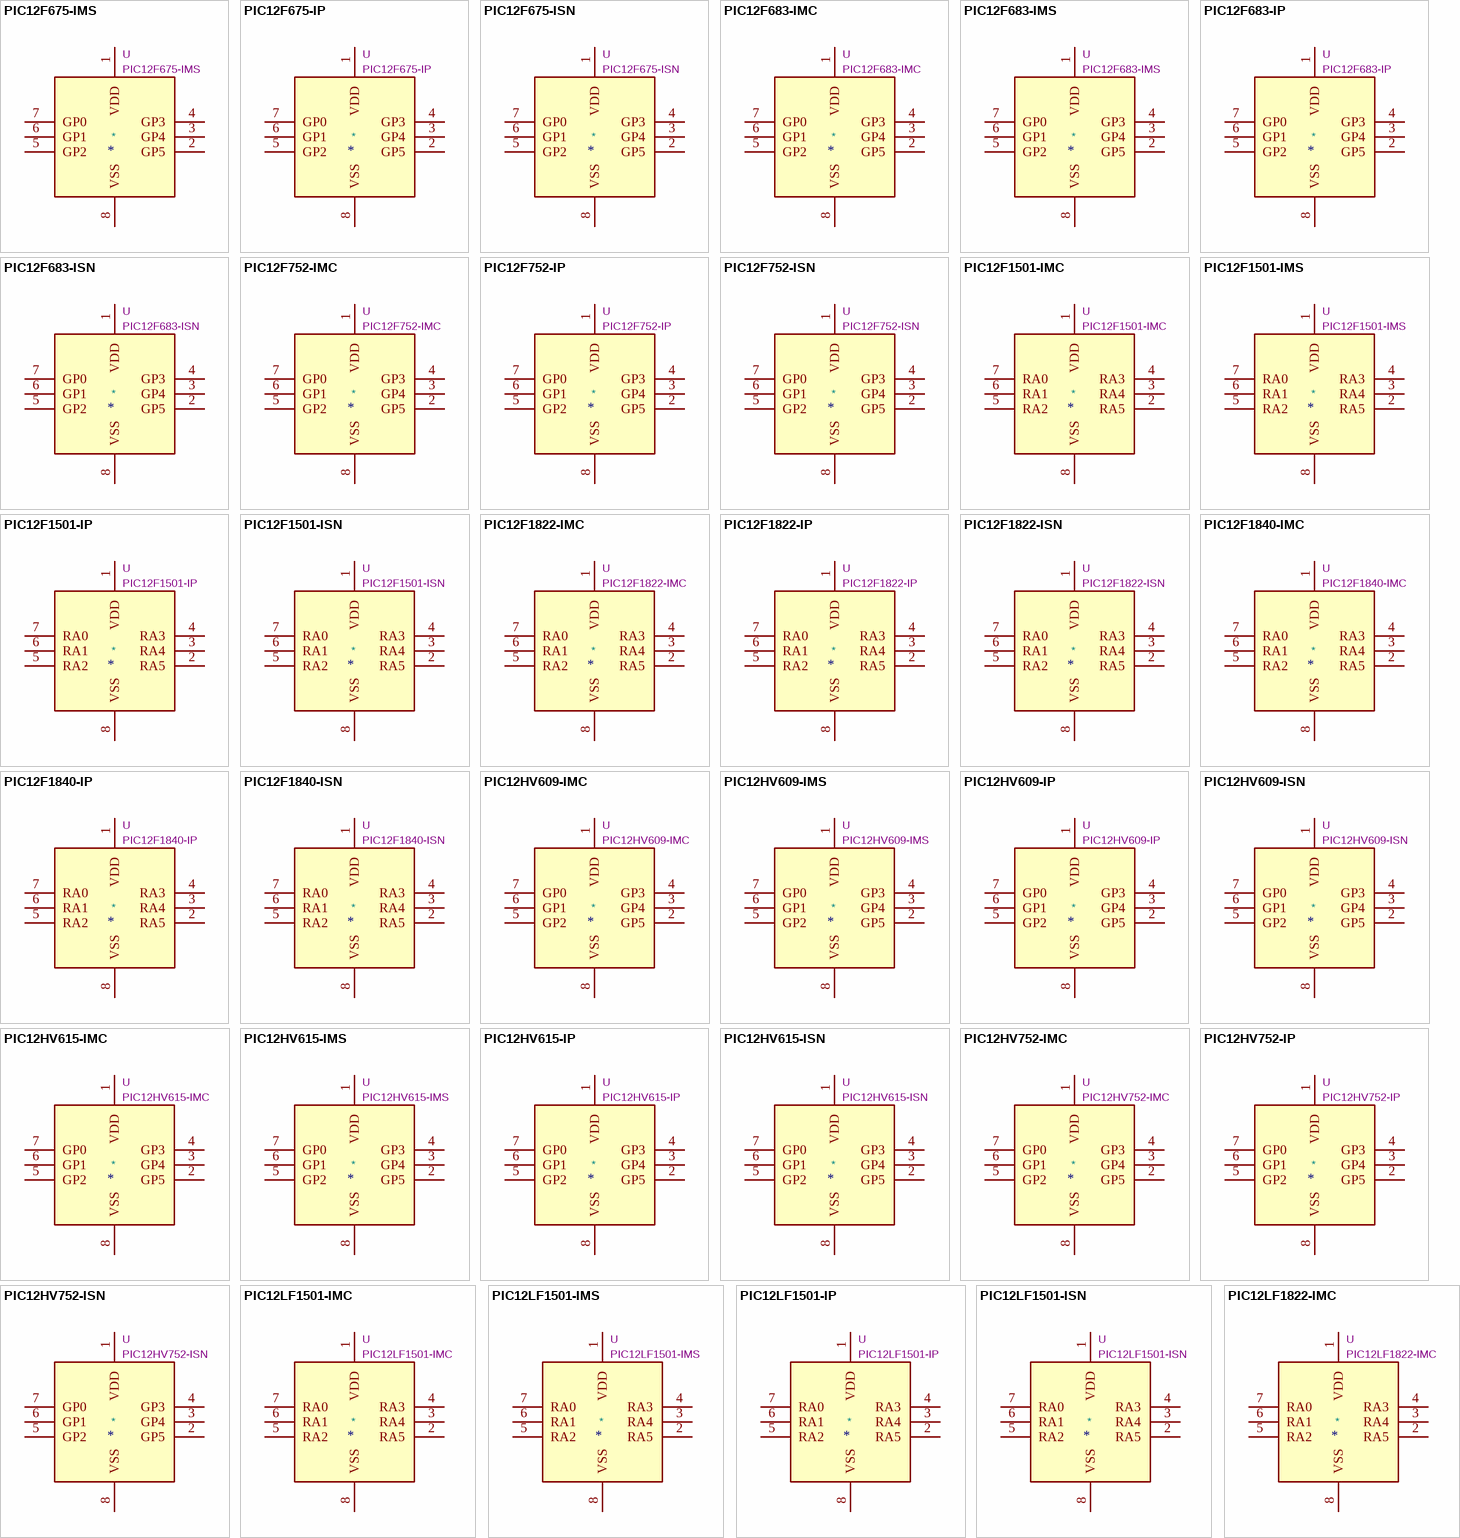
[diagram p2: symbols PIC12F675-IMS to PIC12LF1822-IMC]

## PIC12F675-IMS
designator *  value PIC12F675-IMS  Reference: U
ki_keywords: FLASH-Based 8-Bit CMOS Microcontroller; ki_description: 1024W Flash, 64B SRAM, 128B EEPROM, PDIP8; ki_fp_filters: DIP*W7.62mm*; Footprint: Package_DIP:DIP-8_W7.62mm; Datasheet: http://ww1.microchip.com/downloads/en/DeviceDoc/41190G.pdf
pins: 1 VDD, 2 GP5, 3 GP4, 4 GP3, 5 GP2, 6 GP1, 7 GP0, 8 VSS

## PIC12F675-IP
designator *  value PIC12F675-IP  Reference: U
ki_keywords: FLASH-Based 8-Bit CMOS Microcontroller; ki_description: 1024W Flash, 64B SRAM, 128B EEPROM, PDIP8; ki_fp_filters: DIP*W7.62mm*; Footprint: Package_DIP:DIP-8_W7.62mm; Datasheet: http://ww1.microchip.com/downloads/en/DeviceDoc/41190G.pdf
pins: 1 VDD, 2 GP5, 3 GP4, 4 GP3, 5 GP2, 6 GP1, 7 GP0, 8 VSS

## PIC12F675-ISN
designator *  value PIC12F675-ISN  Reference: U
ki_keywords: FLASH-Based 8-Bit CMOS Microcontroller; ki_description: PIC12F675, 1024W Flash, 64B SRAM, 128B EEPROM, SO8; ki_fp_filters: DIP*W7.62mm*; Footprint: Package_DIP:DIP-8_W7.62mm; Datasheet: http://ww1.microchip.com/downloads/en/DeviceDoc/41190G.pdf
pins: 1 VDD, 2 GP5, 3 GP4, 4 GP3, 5 GP2, 6 GP1, 7 GP0, 8 VSS

## PIC12F683-IMC
designator *  value PIC12F683-IMC  Reference: U
ki_keywords: FLASH-Based 8-Bit CMOS Microcontroller; ki_description: PIC12F683, 2048W Flash, 128B SRAM, 256B EEPROM, DFN8; ki_fp_filters: DIP*W7.62mm*; Footprint: Package_DIP:DIP-8_W7.62mm; Datasheet: http://ww1.microchip.com/downloads/en/DeviceDoc/41211D_.pdf
pins: 1 VDD, 2 GP5, 3 GP4, 4 GP3, 5 GP2, 6 GP1, 7 GP0, 8 VSS

## PIC12F683-IMS
designator *  value PIC12F683-IMS  Reference: U
ki_keywords: FLASH-Based 8-Bit CMOS Microcontroller; ki_description: 2048W Flash, 128B SRAM, 256B EEPROM, PDIP8; ki_fp_filters: DIP*W7.62mm*; Footprint: Package_DIP:DIP-8_W7.62mm; Datasheet: http://ww1.microchip.com/downloads/en/DeviceDoc/41232D.pdf
pins: 1 VDD, 2 GP5, 3 GP4, 4 GP3, 5 GP2, 6 GP1, 7 GP0, 8 VSS

## PIC12F683-IP
designator *  value PIC12F683-IP  Reference: U
ki_keywords: FLASH-Based 8-Bit CMOS Microcontroller; ki_description: 2048W Flash, 128B SRAM, 256B EEPROM, PDIP8; ki_fp_filters: DIP*W7.62mm*; Footprint: Package_DIP:DIP-8_W7.62mm; Datasheet: http://ww1.microchip.com/downloads/en/DeviceDoc/41232D.pdf
pins: 1 VDD, 2 GP5, 3 GP4, 4 GP3, 5 GP2, 6 GP1, 7 GP0, 8 VSS

## PIC12F683-ISN
designator *  value PIC12F683-ISN  Reference: U
ki_keywords: FLASH-Based 8-Bit CMOS Microcontroller; ki_description: PIC12F683, 2048W Flash, 128B SRAM, 256B EEPROM, SO8; ki_fp_filters: DIP*W7.62mm*; Footprint: Package_DIP:DIP-8_W7.62mm; Datasheet: http://ww1.microchip.com/downloads/en/DeviceDoc/41211D_.pdf
pins: 1 VDD, 2 GP5, 3 GP4, 4 GP3, 5 GP2, 6 GP1, 7 GP0, 8 VSS

## PIC12F752-IMC
designator *  value PIC12F752-IMC  Reference: U
ki_keywords: FLASH-Based 8-Bit CMOS Microcontroller; ki_description: PIC12F752, 1024W Flash, 64B SRAM, DFN8; ki_fp_filters: DIP*W7.62mm*; Footprint: Package_DIP:DIP-8_W7.62mm; Datasheet: http://ww1.microchip.com/downloads/en/DeviceDoc/41576B.pdf
pins: 1 VDD, 2 GP5, 3 GP4, 4 GP3, 5 GP2, 6 GP1, 7 GP0, 8 VSS

## PIC12F752-IP
designator *  value PIC12F752-IP  Reference: U
ki_keywords: FLASH-Based 8-Bit CMOS Microcontroller; ki_description: 1024W Flash, 64B SRAM, PDIP8; ki_fp_filters: DIP*W7.62mm*; Footprint: Package_DIP:DIP-8_W7.62mm; Datasheet: http://ww1.microchip.com/downloads/en/DeviceDoc/41576B.pdf
pins: 1 VDD, 2 GP5, 3 GP4, 4 GP3, 5 GP2, 6 GP1, 7 GP0, 8 VSS

## PIC12F752-ISN
designator *  value PIC12F752-ISN  Reference: U
ki_keywords: FLASH-Based 8-Bit CMOS Microcontroller; ki_description: PIC12F752, 1024W Flash, 64B SRAM, SO8; ki_fp_filters: DIP*W7.62mm*; Footprint: Package_DIP:DIP-8_W7.62mm; Datasheet: http://ww1.microchip.com/downloads/en/DeviceDoc/41576B.pdf
pins: 1 VDD, 2 GP5, 3 GP4, 4 GP3, 5 GP2, 6 GP1, 7 GP0, 8 VSS

## PIC12F1501-IMC
designator *  value PIC12F1501-IMC  Reference: U
ki_keywords: FLASH-Based 8-Bit CMOS Microcontroller Low Power; ki_description: PIC12F1501, 1024W FLASH, 64B SRAM, DFN8; ki_fp_filters: DIP*W7.62mm*; Footprint: Package_DIP:DIP-8_W7.62mm; Datasheet: http://ww1.microchip.com/downloads/en/DeviceDoc/41615A.pdf
pins: 1 VDD, 2 RA5, 3 RA4, 4 RA3, 5 RA2, 6 RA1, 7 RA0, 8 VSS

## PIC12F1501-IMS
designator *  value PIC12F1501-IMS  Reference: U
ki_keywords: FLASH-Based 8-Bit CMOS Microcontroller Low Power; ki_description: PIC12F1501, 1024W FLASH, 64B SRAM, MSOP8; ki_fp_filters: DIP*W7.62mm*; Footprint: Package_DIP:DIP-8_W7.62mm; Datasheet: http://ww1.microchip.com/downloads/en/DeviceDoc/41615A.pdf
pins: 1 VDD, 2 RA5, 3 RA4, 4 RA3, 5 RA2, 6 RA1, 7 RA0, 8 VSS

## PIC12F1501-IP
designator *  value PIC12F1501-IP  Reference: U
ki_keywords: FLASH-Based 8-Bit CMOS Microcontroller Low Power; ki_description: 1024W FLASH, 64B SRAM, PDIP8; ki_fp_filters: DIP*W7.62mm*; Footprint: Package_DIP:DIP-8_W7.62mm; Datasheet: http://ww1.microchip.com/downloads/en/DeviceDoc/41615A.pdf
pins: 1 VDD, 2 RA5, 3 RA4, 4 RA3, 5 RA2, 6 RA1, 7 RA0, 8 VSS

## PIC12F1501-ISN
designator *  value PIC12F1501-ISN  Reference: U
ki_keywords: FLASH-Based 8-Bit CMOS Microcontroller; ki_description: PIC12F1501, 1024W FLASH, 64B SRAM, SO8; ki_fp_filters: DIP*W7.62mm*; Footprint: Package_DIP:DIP-8_W7.62mm; Datasheet: http://ww1.microchip.com/downloads/en/DeviceDoc/41615A.pdf
pins: 1 VDD, 2 RA5, 3 RA4, 4 RA3, 5 RA2, 6 RA1, 7 RA0, 8 VSS

## PIC12F1822-IMC
designator *  value PIC12F1822-IMC  Reference: U
ki_keywords: FLASH-Based 8-Bit CMOS Microcontroller XLP; ki_description: PIC12F1822, 2kW FLASH, 128B SRAM, 256 EEPROM, DFN8; ki_fp_filters: DIP*W7.62mm*; Footprint: Package_DIP:DIP-8_W7.62mm; Datasheet: http://ww1.microchip.com/downloads/en/DeviceDoc/41413B.pdf
pins: 1 VDD, 2 RA5, 3 RA4, 4 RA3, 5 RA2, 6 RA1, 7 RA0, 8 VSS

## PIC12F1822-IP
designator *  value PIC12F1822-IP  Reference: U
ki_keywords: FLASH-Based 8-Bit CMOS Microcontroller XLP; ki_description: 2kW FLASH, 128B SRAM, 256 EEPROM, PDIP8; ki_fp_filters: DIP*W7.62mm*; Footprint: Package_DIP:DIP-8_W7.62mm; Datasheet: http://ww1.microchip.com/downloads/en/DeviceDoc/41413B.pdf
pins: 1 VDD, 2 RA5, 3 RA4, 4 RA3, 5 RA2, 6 RA1, 7 RA0, 8 VSS

## PIC12F1822-ISN
designator *  value PIC12F1822-ISN  Reference: U
ki_keywords: FLASH-Based 8-Bit CMOS Microcontroller XLP; ki_description: PIC12F1822, 2kW FLASH, 128B SRAM, 256 EEPROM, SO8; ki_fp_filters: DIP*W7.62mm*; Footprint: Package_DIP:DIP-8_W7.62mm; Datasheet: http://ww1.microchip.com/downloads/en/DeviceDoc/41413B.pdf
pins: 1 VDD, 2 RA5, 3 RA4, 4 RA3, 5 RA2, 6 RA1, 7 RA0, 8 VSS

## PIC12F1840-IMC
designator *  value PIC12F1840-IMC  Reference: U
ki_keywords: FLASH-Based 8-Bit CMOS Microcontroller XLP; ki_description: PIC12F1840, 4kW FLASH, 256B SRAM, 256B EEPROM, PDIP8; ki_fp_filters: DIP*W7.62mm*; Footprint: Package_DIP:DIP-8_W7.62mm; Datasheet: http://ww1.microchip.com/downloads/en/DeviceDoc/41441B.pdf
pins: 1 VDD, 2 RA5, 3 RA4, 4 RA3, 5 RA2, 6 RA1, 7 RA0, 8 VSS

## PIC12F1840-IP
designator *  value PIC12F1840-IP  Reference: U
ki_keywords: FLASH-Based 8-Bit CMOS Microcontroller XLP; ki_description: 4kW FLASH, 256B SRAM, 256B EEPROM, PDIP8; ki_fp_filters: DIP*W7.62mm*; Footprint: Package_DIP:DIP-8_W7.62mm; Datasheet: http://ww1.microchip.com/downloads/en/DeviceDoc/41441B.pdf
pins: 1 VDD, 2 RA5, 3 RA4, 4 RA3, 5 RA2, 6 RA1, 7 RA0, 8 VSS

## PIC12F1840-ISN
designator *  value PIC12F1840-ISN  Reference: U
ki_keywords: FLASH-Based 8-Bit CMOS Microcontroller XLP; ki_description: PIC12F1840, 4kW FLASH, 256B SRAM, 256B EEPROM, SO8; ki_fp_filters: DIP*W7.62mm*; Footprint: Package_DIP:DIP-8_W7.62mm; Datasheet: http://ww1.microchip.com/downloads/en/DeviceDoc/41441B.pdf
pins: 1 VDD, 2 RA5, 3 RA4, 4 RA3, 5 RA2, 6 RA1, 7 RA0, 8 VSS

## PIC12HV609-IMC
designator *  value PIC12HV609-IMC  Reference: U
ki_keywords: FLASH-Based 8-Bit CMOS Microcontroller High Voltage; ki_description: PIC12HV609, 1024W Flash, 64B SRAM, DFN8; ki_fp_filters: DIP*W7.62mm*; Footprint: Package_DIP:DIP-8_W7.62mm; Datasheet: http://ww1.microchip.com/downloads/en/DeviceDoc/41302D.pdf
pins: 1 VDD, 2 GP5, 3 GP4, 4 GP3, 5 GP2, 6 GP1, 7 GP0, 8 VSS

## PIC12HV609-IMS
designator *  value PIC12HV609-IMS  Reference: U
ki_keywords: FLASH-Based 8-Bit CMOS Microcontroller High Voltage; ki_description: PIC12HV609, 1024W Flash, 64B SRAM, MSOP8; ki_fp_filters: DIP*W7.62mm*; Footprint: Package_DIP:DIP-8_W7.62mm; Datasheet: http://ww1.microchip.com/downloads/en/DeviceDoc/41302D.pdf
pins: 1 VDD, 2 GP5, 3 GP4, 4 GP3, 5 GP2, 6 GP1, 7 GP0, 8 VSS

## PIC12HV609-IP
designator *  value PIC12HV609-IP  Reference: U
ki_keywords: FLASH-Based 8-Bit CMOS Microcontroller High Voltage; ki_description: 1024W Flash, 64B SRAM, PDIP8; ki_fp_filters: DIP*W7.62mm*; Footprint: Package_DIP:DIP-8_W7.62mm; Datasheet: http://ww1.microchip.com/downloads/en/DeviceDoc/41302D.pdf
pins: 1 VDD, 2 GP5, 3 GP4, 4 GP3, 5 GP2, 6 GP1, 7 GP0, 8 VSS

## PIC12HV609-ISN
designator *  value PIC12HV609-ISN  Reference: U
ki_keywords: FLASH-Based 8-Bit CMOS Microcontroller High Voltage; ki_description: PIC12HV609, 1024W Flash, 64B SRAM, SO8; ki_fp_filters: DIP*W7.62mm*; Footprint: Package_DIP:DIP-8_W7.62mm; Datasheet: http://ww1.microchip.com/downloads/en/DeviceDoc/41302D.pdf
pins: 1 VDD, 2 GP5, 3 GP4, 4 GP3, 5 GP2, 6 GP1, 7 GP0, 8 VSS

## PIC12HV615-IMC
designator *  value PIC12HV615-IMC  Reference: U
ki_keywords: FLASH-Based 8-Bit CMOS Microcontroller High Voltage; ki_description: PIC12HV615, 1024W Flash, 64B SRAM, DFN8; ki_fp_filters: DIP*W7.62mm*; Footprint: Package_DIP:DIP-8_W7.62mm; Datasheet: http://ww1.microchip.com/downloads/en/DeviceDoc/41302D.pdf
pins: 1 VDD, 2 GP5, 3 GP4, 4 GP3, 5 GP2, 6 GP1, 7 GP0, 8 VSS

## PIC12HV615-IMS
designator *  value PIC12HV615-IMS  Reference: U
ki_keywords: FLASH-Based 8-Bit CMOS Microcontroller High Voltage; ki_description: PIC12HV615, 1024W Flash, 64B SRAM, MSOP8; ki_fp_filters: DIP*W7.62mm*; Footprint: Package_DIP:DIP-8_W7.62mm; Datasheet: http://ww1.microchip.com/downloads/en/DeviceDoc/41302D.pdf
pins: 1 VDD, 2 GP5, 3 GP4, 4 GP3, 5 GP2, 6 GP1, 7 GP0, 8 VSS

## PIC12HV615-IP
designator *  value PIC12HV615-IP  Reference: U
ki_keywords: FLASH-Based 8-Bit CMOS Microcontroller High Voltage; ki_description: 1024W Flash, 64B SRAM, PDIP8; ki_fp_filters: DIP*W7.62mm*; Footprint: Package_DIP:DIP-8_W7.62mm; Datasheet: http://ww1.microchip.com/downloads/en/DeviceDoc/41302D.pdf
pins: 1 VDD, 2 GP5, 3 GP4, 4 GP3, 5 GP2, 6 GP1, 7 GP0, 8 VSS

## PIC12HV615-ISN
designator *  value PIC12HV615-ISN  Reference: U
ki_keywords: FLASH-Based 8-Bit CMOS Microcontroller High Voltage; ki_description: PIC12HV615, 1024W Flash, 64B SRAM, SO8; ki_fp_filters: DIP*W7.62mm*; Footprint: Package_DIP:DIP-8_W7.62mm; Datasheet: http://ww1.microchip.com/downloads/en/DeviceDoc/41302D.pdf
pins: 1 VDD, 2 GP5, 3 GP4, 4 GP3, 5 GP2, 6 GP1, 7 GP0, 8 VSS

## PIC12HV752-IMC
designator *  value PIC12HV752-IMC  Reference: U
ki_keywords: FLASH-Based 8-Bit CMOS Microcontroller High Voltage; ki_description: PIC12HV752, 1024W Flash, 64B SRAM, DFN8; ki_fp_filters: DIP*W7.62mm*; Footprint: Package_DIP:DIP-8_W7.62mm; Datasheet: http://ww1.microchip.com/downloads/en/DeviceDoc/41576B.pdf
pins: 1 VDD, 2 GP5, 3 GP4, 4 GP3, 5 GP2, 6 GP1, 7 GP0, 8 VSS

## PIC12HV752-IP
designator *  value PIC12HV752-IP  Reference: U
ki_keywords: FLASH-Based 8-Bit CMOS Microcontroller High Voltage; ki_description: 1024W Flash, 64B SRAM, PDIP8; ki_fp_filters: DIP*W7.62mm*; Footprint: Package_DIP:DIP-8_W7.62mm; Datasheet: http://ww1.microchip.com/downloads/en/DeviceDoc/41576B.pdf
pins: 1 VDD, 2 GP5, 3 GP4, 4 GP3, 5 GP2, 6 GP1, 7 GP0, 8 VSS

## PIC12HV752-ISN
designator *  value PIC12HV752-ISN  Reference: U
ki_keywords: FLASH-Based 8-Bit CMOS Microcontroller High Voltage; ki_description: PIC12HV752, 1024W Flash, 64B SRAM, SO8; ki_fp_filters: DIP*W7.62mm*; Footprint: Package_DIP:DIP-8_W7.62mm; Datasheet: http://ww1.microchip.com/downloads/en/DeviceDoc/41576B.pdf
pins: 1 VDD, 2 GP5, 3 GP4, 4 GP3, 5 GP2, 6 GP1, 7 GP0, 8 VSS

## PIC12LF1501-IMC
designator *  value PIC12LF1501-IMC  Reference: U
ki_keywords: FLASH-Based 8-Bit CMOS Microcontroller Low Power; ki_description: PIC12LF1501, 1024W FLASH, 64B SRAM, DFN8; ki_fp_filters: DIP*W7.62mm*; Footprint: Package_DIP:DIP-8_W7.62mm; Datasheet: http://ww1.microchip.com/downloads/en/DeviceDoc/41615A.pdf
pins: 1 VDD, 2 RA5, 3 RA4, 4 RA3, 5 RA2, 6 RA1, 7 RA0, 8 VSS

## PIC12LF1501-IMS
designator *  value PIC12LF1501-IMS  Reference: U
ki_keywords: FLASH-Based 8-Bit CMOS Microcontroller Low Power; ki_description: PIC12LF1501, 1024W FLASH, 64B SRAM, MSOP8; ki_fp_filters: DIP*W7.62mm*; Footprint: Package_DIP:DIP-8_W7.62mm; Datasheet: http://ww1.microchip.com/downloads/en/DeviceDoc/41615A.pdf
pins: 1 VDD, 2 RA5, 3 RA4, 4 RA3, 5 RA2, 6 RA1, 7 RA0, 8 VSS

## PIC12LF1501-IP
designator *  value PIC12LF1501-IP  Reference: U
ki_keywords: FLASH-Based 8-Bit CMOS Microcontroller Low Power; ki_description: 1024W FLASH, 64B SRAM, PDIP8; ki_fp_filters: DIP*W7.62mm*; Footprint: Package_DIP:DIP-8_W7.62mm; Datasheet: http://ww1.microchip.com/downloads/en/DeviceDoc/41615A.pdf
pins: 1 VDD, 2 RA5, 3 RA4, 4 RA3, 5 RA2, 6 RA1, 7 RA0, 8 VSS

## PIC12LF1501-ISN
designator *  value PIC12LF1501-ISN  Reference: U
ki_keywords: FLASH-Based 8-Bit CMOS Microcontroller; ki_description: PIC12LF1501, 1024W FLASH, 64B SRAM, SO8; ki_fp_filters: DIP*W7.62mm*; Footprint: Package_DIP:DIP-8_W7.62mm; Datasheet: http://ww1.microchip.com/downloads/en/DeviceDoc/41615A.pdf
pins: 1 VDD, 2 RA5, 3 RA4, 4 RA3, 5 RA2, 6 RA1, 7 RA0, 8 VSS

## PIC12LF1822-IMC
designator *  value PIC12LF1822-IMC  Reference: U
ki_keywords: FLASH-Based 8-Bit CMOS Microcontroller XLP; ki_description: PIC12LF1822, 2kW FLASH, 128B SRAM, 256 EEPROM, DFN8; ki_fp_filters: DIP*W7.62mm*; Footprint: Package_DIP:DIP-8_W7.62mm; Datasheet: http://ww1.microchip.com/downloads/en/DeviceDoc/41413B.pdf
pins: 1 VDD, 2 RA5, 3 RA4, 4 RA3, 5 RA2, 6 RA1, 7 RA0, 8 VSS

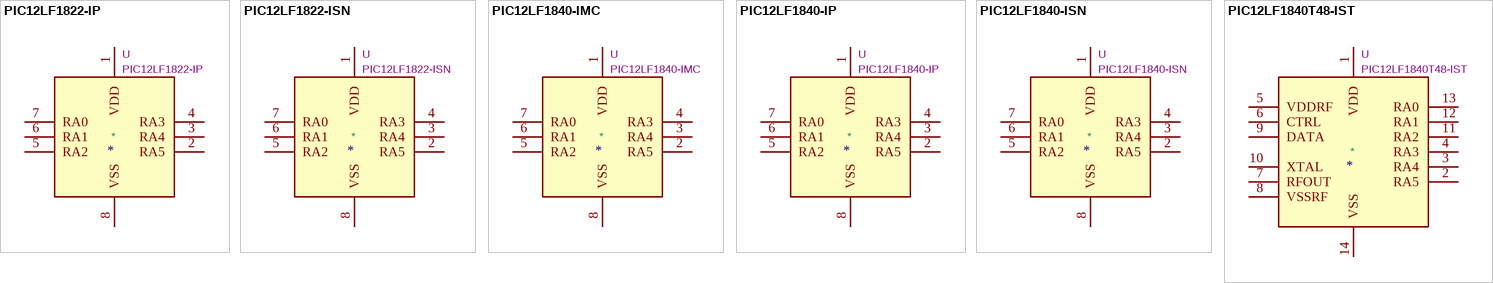
[diagram p3: symbols PIC12LF1822-IP to PIC12LF1840T48-IST]

## PIC12LF1822-IP
designator *  value PIC12LF1822-IP  Reference: U
ki_keywords: FLASH-Based 8-Bit CMOS Microcontroller XLP; ki_description: 2kW FLASH, 128B SRAM, 256 EEPROM, PDIP8; ki_fp_filters: DIP*W7.62mm*; Footprint: Package_DIP:DIP-8_W7.62mm; Datasheet: http://ww1.microchip.com/downloads/en/DeviceDoc/41413B.pdf
pins: 1 VDD, 2 RA5, 3 RA4, 4 RA3, 5 RA2, 6 RA1, 7 RA0, 8 VSS

## PIC12LF1822-ISN
designator *  value PIC12LF1822-ISN  Reference: U
ki_keywords: FLASH-Based 8-Bit CMOS Microcontroller XLP; ki_description: PIC12LF1822, 2kW FLASH, 128B SRAM, 256 EEPROM, SO8; ki_fp_filters: DIP*W7.62mm*; Footprint: Package_DIP:DIP-8_W7.62mm; Datasheet: http://ww1.microchip.com/downloads/en/DeviceDoc/41413B.pdf
pins: 1 VDD, 2 RA5, 3 RA4, 4 RA3, 5 RA2, 6 RA1, 7 RA0, 8 VSS

## PIC12LF1840-IMC
designator *  value PIC12LF1840-IMC  Reference: U
ki_keywords: FLASH-Based 8-Bit CMOS Microcontroller XLP; ki_description: PIC12LF1840, 4kW FLASH, 256B SRAM, 256B EEPROM, PDIP8; ki_fp_filters: DIP*W7.62mm*; Footprint: Package_DIP:DIP-8_W7.62mm; Datasheet: http://ww1.microchip.com/downloads/en/DeviceDoc/41441B.pdf
pins: 1 VDD, 2 RA5, 3 RA4, 4 RA3, 5 RA2, 6 RA1, 7 RA0, 8 VSS

## PIC12LF1840-IP
designator *  value PIC12LF1840-IP  Reference: U
ki_keywords: FLASH-Based 8-Bit CMOS Microcontroller XLP; ki_description: 4kW FLASH, 256B SRAM, 256B EEPROM, PDIP8; ki_fp_filters: DIP*W7.62mm*; Footprint: Package_DIP:DIP-8_W7.62mm; Datasheet: http://ww1.microchip.com/downloads/en/DeviceDoc/41441B.pdf
pins: 1 VDD, 2 RA5, 3 RA4, 4 RA3, 5 RA2, 6 RA1, 7 RA0, 8 VSS

## PIC12LF1840-ISN
designator *  value PIC12LF1840-ISN  Reference: U
ki_keywords: FLASH-Based 8-Bit CMOS Microcontroller XLP; ki_description: PIC12LF1840, 4kW FLASH, 256B SRAM, 256B EEPROM, SO8; ki_fp_filters: DIP*W7.62mm*; Footprint: Package_DIP:DIP-8_W7.62mm; Datasheet: http://ww1.microchip.com/downloads/en/DeviceDoc/41441B.pdf
pins: 1 VDD, 2 RA5, 3 RA4, 4 RA3, 5 RA2, 6 RA1, 7 RA0, 8 VSS

## PIC12LF1840T48-IST
designator *  value PIC12LF1840T48-IST  Reference: U
ki_keywords: FLASH-Based 8-Bit CMOS Microcontroller XLP RF Transmitter; ki_description: PIC12LF1840T48, 4kW FLASH, 256B SRAM, 256B EEPROM, RF, TSSOP14; ki_fp_filters: TSSOP*4.4x5mm*P0.65mm*; Footprint: Package_SO:TSSOP-14_4.4x5mm_P0.65mm; Datasheet: http://ww1.microchip.com/downloads/en/DeviceDoc/41594B.pdf
pins: 1 VDD, 2 RA5, 3 RA4, 4 RA3, 5 VDDRF, 6 CTRL, 7 RFOUT, 8 VSSRF, 9 DATA, 10 XTAL, 11 RA2, 12 RA1, 13 RA0, 14 VSS